# EAGLE library part MAX17055 (library kennethlimcp)
MAX17055 7 μA 1-Cell Fuel Gauge with ModelGauge m5 EZ
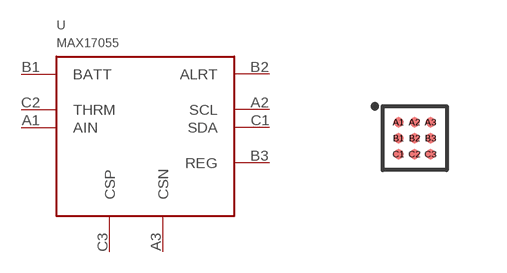
[diagram p12: symbol with the pads of WLP-9; footprint WLP-9]

Designator prefix U

## MAX17055  [WLP-9]
A1  AIN
A2  SCL
A3  CSN
B1  BATT
B2  ALRT
B3  REG
C1  SDA
C2  THRM
C3  CSP

## Footprint WLP-9 (pad centres in mm)
smd 0.25 x 0.25: A1 0,0.8; A2 0.4,0.8; A3 0.8,0.8; B1 0,0.4; B2 0.4,0.4; B3 0.8,0.4; C1 0,0; C2 0.4,0; C3 0.8,0